# Altium schematic symbol library 8-2176088-4.SchLib: 1 symbol
Pins are listed as number, name and electrical type; pins without a type are passive.

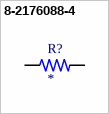
[diagram p0: symbol 8-2176088-4]

## 8-2176088-4
designator R?
RP 1J 0.166W 6K65 0.1% 25PPM 1K RL; MP: 8-2176088-4; Package: None; Price: None; Value: *; Availability: Unavailable
footprint RESC1608X50N
pins: 1, 2